# EAGLE library part ATMEGA1284STD (library MTS-OTR_Custom)
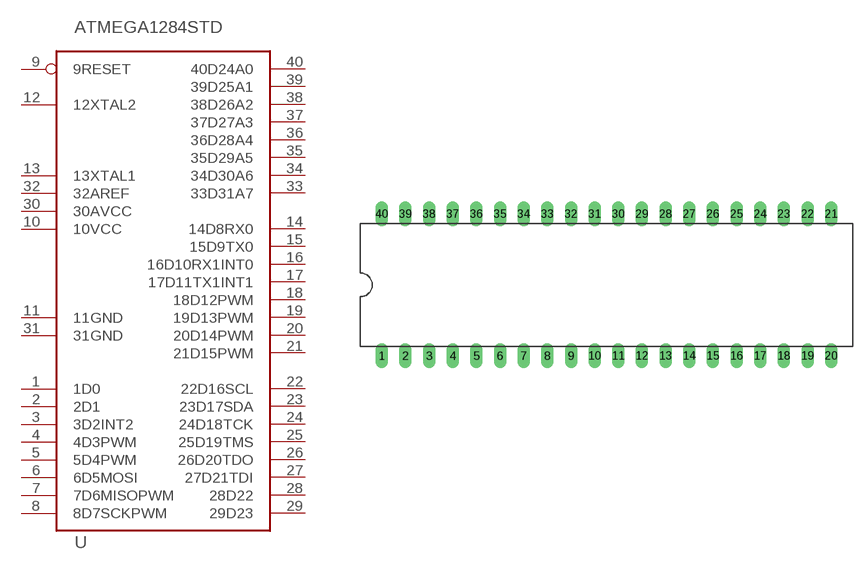
[diagram p12: symbol with the pads of DIL40; footprint DIL40]

Designator prefix -

## ATMEGA1284STD  [DIL40]
1  1D0
2  2D1
3  3D2INT2
4  4D3PWM
5  5D4PWM
6  6D5MOSI
7  7D6MISOPWM
8  8D7SCKPWM
9  9RESET
10  10VCC
11  11GND
12  12XTAL2
13  13XTAL1
14  14D8RX0
15  15D9TX0
16  16D10RX1INT0
17  17D11TX1INT1
18  18D12PWM
19  19D13PWM
20  20D14PWM
21  21D15PWM
22  22D16SCL
23  23D17SDA
24  24D18TCK
25  25D19TMS
26  26D20TDO
27  27D21TDI
28  28D22
29  29D23
30  30AVCC
31  31GND
32  32AREF
33  33D31A7
34  34D30A6
35  35D29A5
36  36D28A4
37  37D27A3
38  38D26A2
39  39D25A1
40  40D24A0

## Footprint DIL40 (pad centres in mm)
Dual In Line
drill 0.813 long: 1 -24.13,-7.62; 2 -21.59,-7.62; 3 -19.05,-7.62; 4 -16.51,-7.62; 5 -13.97,-7.62; 6 -11.43,-7.62; 7 -8.89,-7.62; 8 -6.35,-7.62; 9 -3.81,-7.62; 10 -1.27,-7.62; 11 1.27,-7.62; 12 3.81,-7.62; 13 6.35,-7.62; 14 8.89,-7.62; 15 11.43,-7.62; 16 13.97,-7.62; 17 16.51,-7.62; 18 19.05,-7.62; 19 21.59,-7.62; 20 24.13,-7.62; 21 24.13,7.62; 22 21.59,7.62; 23 19.05,7.62; 24 16.51,7.62; 25 13.97,7.62; 26 11.43,7.62; 27 8.89,7.62; 28 6.35,7.62; 29 3.81,7.62; 30 1.27,7.62; 31 -1.27,7.62; 32 -3.81,7.62; 33 -6.35,7.62; 34 -8.89,7.62; 35 -11.43,7.62; 36 -13.97,7.62; 37 -16.51,7.62; 38 -19.05,7.62; 39 -21.59,7.62; 40 -24.13,7.62